# Altium footprint library ConnectorLib.PcbLib: 12 footprints
Each footprint in its own frame and in the unit in brackets; x right, y up, seen from the top. Pads: shape width x height; smd on the part's side, far side on the other; paste and mask are expansions set on the pad; w line width, h text height; cw(c..) or ccw(c..) is an arc to the next point about the centre after c.
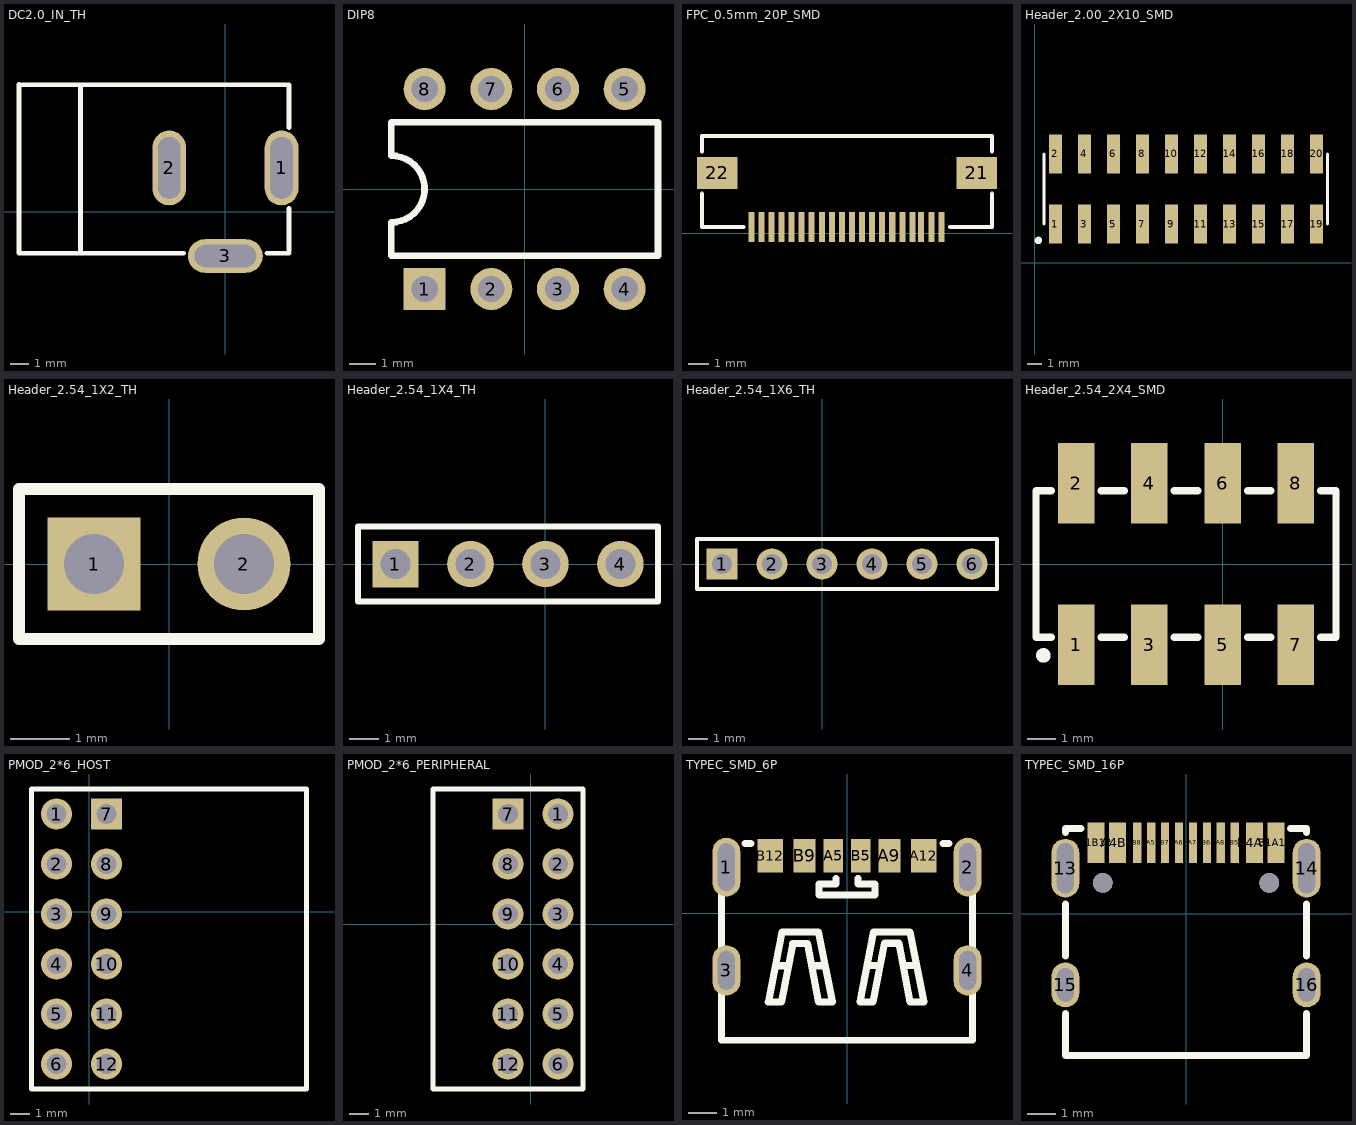
[diagram p0: the footprints below, top view; thin cyan lines are the x and y axes]

## DC2.0_IN_TH [mm]
pads (3):
  oval 1.8x4 hole 1.2 slot 3.3 at 90 deg: 1(3,2.352) 2(-3,2.352)
  oval 4x1.8 hole 1.2 slot 3.3 at 0 deg: 3(0,-2.352)
Top Overlay:
  lines w0.254: -11.028,-2.203 -2.222,-2.203 ; -11.028,-2.195 -11.028,6.805 ; -11.028,6.797 3.38,6.797 ; -7.747,-2.203 -7.747,6.797 ; 2.221,-2.203 3.403,-2.203 ; 3.403,-2.072 3.403,0.195 ; 3.403,4.508 3.403,6.797

## DIP8 [mil]
pads (8):
  rect 63x63 hole 39.37: 1(-150,-150)
  round 63 hole 39.37: 2(-50,-150) 3(50,-150) 4(150,-150) 5(150,150) 6(50,150) 7(-50,150) 8(-150,150)
Top Overlay:
  lines w10: -200,-100 -200,-50 ccw(c-200,0) -200,50 -200,100 200,100 200,-100 -200,-100

## FPC_0.5mm_20P_SMD [mm]
pads (22):
  rect 0.3x1.5 smd: 1(3.757,0.312) 2(4.257,0.312) 3(4.757,0.312) 4(5.257,0.312) 5(5.757,0.312) 6(6.257,0.312) 7(6.757,0.312) 8(7.257,0.312) 9(7.757,0.312) 10(8.257,0.312) 11(8.757,0.312) 12(9.257,0.312) 13(9.757,0.312) 14(10.257,0.312) 15(10.757,0.312) 16(11.257,0.312) 17(11.757,0.312) 18(12.192,0.31) 19(12.7,0.31) 20(13.208,0.31)
  rect 2x1.6 smd: 21(14.959,2.99) 22(2.059,2.99)
Top Overlay:
  lines w0.203: 1.309,0.31 3.376,0.31 ; 1.309,0.327 1.309,1.959 ; 1.309,4.064 1.309,4.826 15.709,4.826 15.709,4.066 ; 13.638,0.31 15.709,0.31 15.709,1.959

## Header_2.00_2X10_SMD [mm]
height 4.3
pads (20):
  rect 0.9x2.68 smd: 1(1.43,2.643) 2(1.43,7.493) 3(3.43,2.643) 4(3.43,7.493) 5(5.43,2.643) 6(5.43,7.493) 7(7.43,2.643) 8(7.43,7.493) 9(9.43,2.643) 10(9.43,7.493) 11(11.43,2.643) 12(11.43,7.493) 13(13.43,2.643) 14(13.43,7.493) 15(15.43,2.643) 16(15.43,7.493) 17(17.43,2.643) 18(17.43,7.493) 19(19.43,2.643) 20(19.43,7.493)
Top Overlay:
  circle w0.254: c0.254,1.524 r0.127
  lines w0.203: 0.635,2.643 0.635,7.493 ; 20.193,2.643 20.193,7.493

## Header_2.54_1X2_TH [mil]
pads (2):
  rect 62x62 hole 40.16: 1(-50,0)
  round 62 hole 40.16: 2(50,0)
Top Overlay:
  lines w7.99: -25,50 100,50
  lines w8: -25,50 -100,50 -100,-50 100,-50 100,50

## Header_2.54_1X4_TH [mil]
pads (4):
  rect 62x62 hole 40.16: 1(-200,0)
  round 62 hole 40.16: 2(-100,0) 3(0,0) 4(100,0)
Top Overlay:
  lines w7.99: -175,50 150,50
  lines w8: -175,50 -250,50 -250,-50 150,-50 150,50

## Header_2.54_1X6_TH [mil]
pads (6):
  rect 62x62 hole 40.16: 1(-200,0)
  round 62 hole 40.16: 2(-100,0) 3(0,0) 4(100,0) 5(200,0) 6(300,0)
Top Overlay:
  lines w7.99: -175,50 350,50
  lines w8: -175,50 -250,50 -250,-50 350,-50 350,50

## Header_2.54_2X4_SMD [mm]
pads (8):
  rect 1.27x2.8 smd: 1(-5.08,-2.8) 2(-5.08,2.8) 3(-2.54,-2.8) 4(-2.54,2.8) 5(0,-2.8) 6(0,2.8) 7(2.54,-2.8) 8(2.54,2.8)
Top Overlay:
  circle w0.254: c-6.223,-3.175 r0.127
  lines w0.254: -5.946,-2.54 -6.477,-2.54 -6.477,2.54 -5.946,2.54 ; -4.214,-2.54 -3.406,-2.54 ; -4.214,2.54 -3.406,2.54 ; -1.674,-2.54 -0.866,-2.54 ; -1.674,2.54 -0.866,2.54 ; 0.866,-2.54 1.674,-2.54 ; 0.866,2.54 1.674,2.54 ; 3.406,-2.54 3.937,-2.54 3.937,2.54 3.406,2.54

## PMOD_2*6_HOST [mil]
pads (12):
  round 62 hole 40.16: 1(-65,195) 2(-65,95) 3(-65,-5) 4(-65,-105) 5(-65,-205) 6(-65,-305) 8(35,95) 9(35,-5) 10(35,-105) 11(35,-205) 12(35,-305)
  rect 62x62 hole 40.16: 7(35,195)
Top Overlay:
  lines w10: -115,-355 435,-355 435,245 -115,245 -115,-355

## PMOD_2*6_PERIPHERAL [mil]
pads (12):
  round 62 hole 40.16: 1(55,220) 2(55,120) 3(55,20) 4(55,-80) 5(55,-180) 6(55,-280) 8(-45,120) 9(-45,20) 10(-45,-80) 11(-45,-180) 12(-45,-280)
  rect 62x62 hole 40.16: 7(-45,220)
Top Overlay:
  lines w10: -195,-330 -195,-280 -195,270 -45,270 105,270 105,220 105,-330 -195,-330

## TYPEC_SMD_6P [mm]
pads (10):
  oval 1x2.1 hole 0.6 slot 1.7 at 90 deg: 1(-4.32,1.65) 2(4.32,1.65)
  oval 1x1.8 hole 0.6 slot 1.4 at 90 deg: 3(-4.32,-2.05) 4(4.32,-2.05)
  rect 0.7x1.2 smd: A5(-0.5,2.05) B5(0.5,2.05)
  rect 0.8x1.2 smd: A9(1.52,2.05) B9(-1.52,2.05)
  rect 0.9x1.2 smd: A12(2.75,2.05) B12(-2.75,2.05)
Top Overlay:
  lines w0.25: -4.5,-4.55 4.5,-4.55 ; -4.5,-4.5 -4.5,2.49 ; -3.651,2.49 -3.429,2.49 ; -1.01,0.65 1.01,0.65 ; -1,0.65 -1,1.05 -0.4,1.05 -0.4,1.25 ; 0.4,1.25 0.4,1.05 1,1.05 1,0.65 ; 3.429,2.49 3.651,2.49 ; 4.5,-4.5 4.5,2.49
  lines w0.254: -2.518,-1.883 -2.119,-1.883 ; -1.219,-1.882 -0.819,-1.882 ; 0.759,-1.878 1.158,-1.878 ; 2.058,-1.877 2.458,-1.877 ; -2.818,-3.183 -2.32,-0.681 -1.019,-0.681 -0.519,-3.183 -1.014,-3.183 -1.413,-1.083 -1.941,-1.083 -2.343,-3.183 -2.818,-3.183 ; 0.459,-3.178 0.957,-0.676 2.257,-0.676 2.758,-3.178 2.263,-3.178 1.864,-1.078 1.335,-1.078 0.934,-3.178 0.459,-3.178

## TYPEC_SMD_16P [mm]
pads (18):
  oval 1x2.099 hole 0.6 slot 1.8 at 90 deg: 13(-4.32,1.633) 14(4.32,1.633)
  oval 1x1.599 hole 0.6 slot 1.2 at 90 deg: 15(-4.32,-2.547) 16(4.32,-2.547)
  rect 0.6x1.45 smd: A1B12(-3.225,2.547) A4B9(-2.45,2.547) B1A12(3.22,2.547) B4A9(2.45,2.547)
  rect 0.3x1.45 smd: A5(-1.25,2.547) A6(-0.25,2.547) A7(0.25,2.547) A8(1.25,2.547) B5(1.75,2.547) B6(0.75,2.547) B7(-0.75,2.547) B8(-1.75,2.547)
  round 0.7 hole 0.7 unplated: ""(-2.98,1.102) ""(2.98,1.102)
Top Overlay:
  lines w0.254: -4.318,-3.579 -4.318,-5.08 4.318,-5.08 4.318,-3.579 ; -4.318,-1.516 -4.318,0.351 ; -4.318,2.914 -4.318,3.048 -3.756,3.048 ; 3.751,3.048 4.318,3.048 4.318,2.914 ; 4.318,-1.516 4.318,0.351
Mechanical 4:
  circle w0.35: c-2.98,1.102 r0.175
  circle w0.35: c2.98,1.102 r0.175